# Altium schematic symbol library connectors.SCHLIB: 11 symbols
Pins are listed as number, name and electrical type; pins without a type are passive.

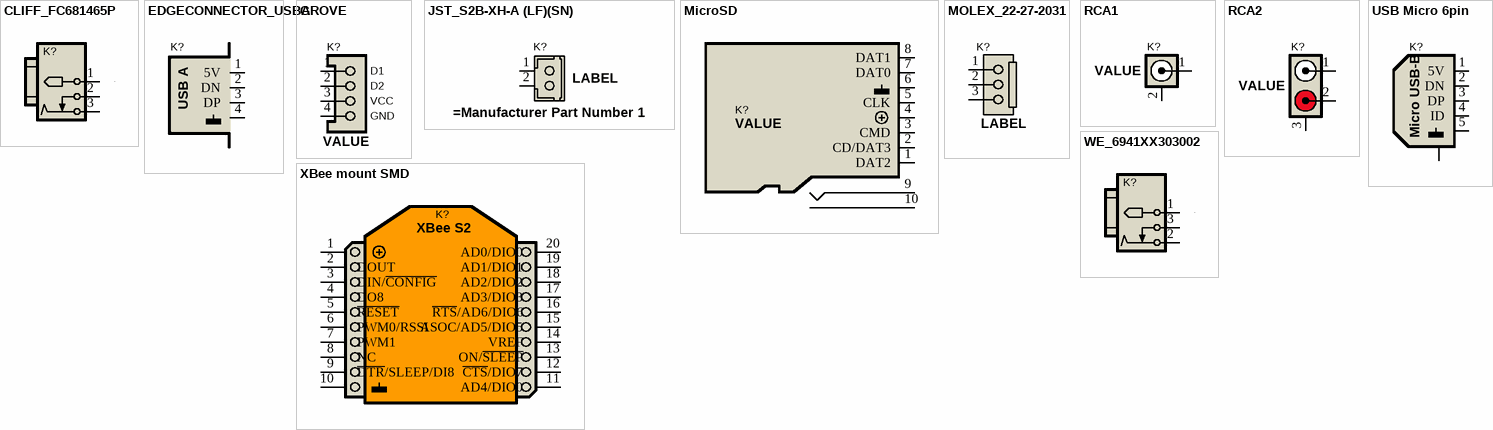
[diagram p0: symbols CLIFF_FC681465P to XBee mount SMD]

## CLIFF_FC681465P
designator K?, comment FC681465P  (value not drawn)
DC Power jack TH 2mm & 2.5mm; Manufacturer 1: Cliff; Supplier 1: Farnell; Supplier Part Number 1: 1854512; Manufacturer Part Number 1: FC681465P; Verified: NO
footprint CLIFF_1854512
pins: 1, 2, 3

## EDGECONNECTOR_USBA
designator K?, comment Edge connector  (value not drawn)
USB PCB Edge connector
footprint EDGE_USBA (USBA EDGE CONNECTOR)
pins: 1 5V, 2 DN, 3 DP, 4 GND
text: USB A

## GROVE
designator K?  Pin1Name: D1  Pin2Name: D2
Grove 4-pin standard connector; VALUE: VALUE
pins: 1, 2, 3, 4
2 alternate drawings of the same symbol
text: VCC; GND

## JST_S2B-XH-A (LF)(SN)
designator K?
JST Right angle connector; Label: LABEL
pins: 1, 2
2 alternate drawings of the same symbol

## MicroSD
designator K?
General symbol for a Micro SD card holder; VALUE: VALUE
pins: 1 DAT2, 2 CD/DAT3, 3 CMD, 4 VDD (power), 5 CLK, 6 GND (power), 7 DAT0, 8 DAT1, 9 SW2, 10 SW1

## MOLEX_22-27-2031
designator K?, comment 22-27-2031  (value not drawn)
Wire to board connector, 3 pin, 2.54mm; Manufacturer 1: Molex; Verified: [NO]; Supplier 1: Farnell; Supplier Part Number 1: 9731156; Manufacturer Part Number 1: 22-27-2031; Label: LABEL
footprint MOLEX_22-27-2031 (Molex KK6410 Series)
pins: 1, 2, 3
2 alternate drawings of the same symbol

## RCA1
designator K?
RCA Connector; VALUE: VALUE
pins: 1, 2 GND

## RCA2
designator K?
RCA Dual Connector; VALUE: VALUE
pins: 1 L, 2 R, 3 GND

## USB Micro 6pin
designator K?
Micro-USB B Receptacle
pins: 0 SHIELD, 1 5V, 2 DN, 3 DP, 4 ID (power), 5 GND
text: Micro USB-B

## WE_6941XX303002
designator K?, comment 694102303002  (value not drawn)
DC Power jack TH 2mm & 2.5mm; Manufacturer 1: Wurth; Supplier 1: Farnell; Supplier Part Number 1: 2472141; Manufacturer Part Number 1: 694102303002; Verified: NO
footprint WE_6941XX303002
pins: 1, 2, 3

## XBee mount SMD
designator K?, comment NPPN101BFLD-RC  (value not drawn)
XBee mounting socket (2x Sullins NPPN101BFLD-RC); Order Qty 1: 2; Supplier 1: Digi-Key; Supplier Part Number 1: S5902-10-ND; Manufacturer 1: Sullins; Manufacturer Part Number 1: NPPN101BFLD-RC
footprint XBEE_SMD
pins: 1 VCC, 2 DOUT, 3 DIN/~{CONFIG}, 4 DO8, 5 ~{RESET}, 6 PWM0/RSSI, 7 PWM1, 8 NC, 9 ~{DTR}/SLEEP/DI8, 10, 11 AD4/DIO0, 12 ~{CTS}/DIO7, 13 ON/~{SLEEP}, 14 VREF, 15 ASOC/AD5/DIO5, 16 ~{RTS}/AD6/DIO6, 17 AD3/DIO3, 18 AD2/DIO2, 19 AD1/DIO1, 20 AD0/DIO0
text: XBee S2